# Altium integrated library Grounded clock.IntLib: 54 symbols (part 2 of 2)
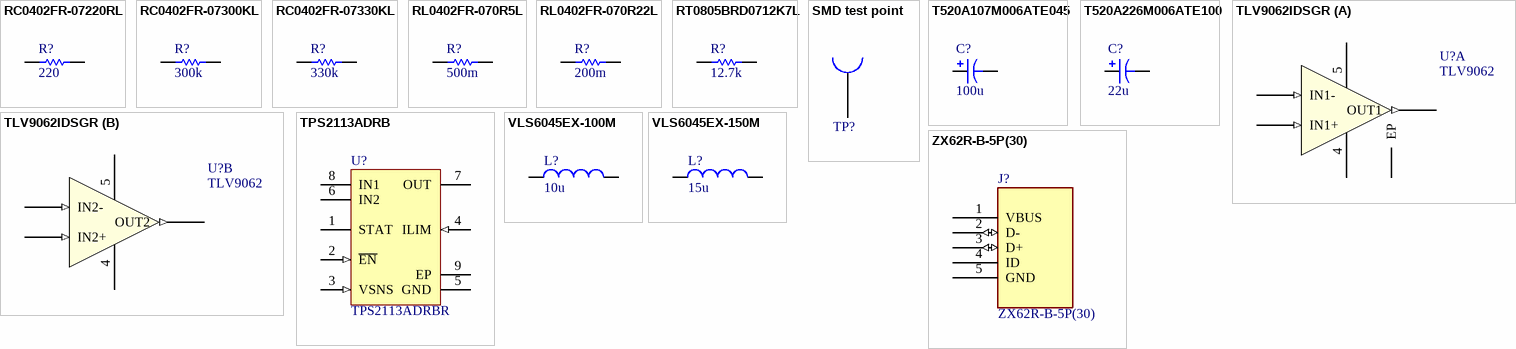
[diagram p2: symbols RC0402FR-07220RL to ZX62R-B-5P(30)]

## RC0402FR-07330KL
designator R?, comment 330k
RES SMD 330K OHM 1% 1/16W 0402; Manufacturer: Yageo; Manufacturer Part Number: RC0402FR-07330KL; Power (Watts): 0.063W, 1/16W; Temperature Coefficient: ±100ppm/°C; Supplier 1: Digi-Key; RoHS: RoHS Compliant; Category: Resistors; Stock 1: 1954423; Pricing 1: 1=0.1, 10=0.018, 100=0.0076, 1000=0.00356, 2500=0.00313, 5000=0.00263 (USD); Packaging: Cut Tape (CT); Part Status: Active; Tolerance: ±1%; Composition: Thick Film; Features: Moisture Resistant; Operating Temperature: -55°C ~ 155°C; Package / Case: 0402 (1005 Metric); Supplier Device Package: 0402; Size / Dimension: 0.039" L x 0.020" W (1.00mm x 0.50mm); Height - Seated (Max): 0.016" (0.40mm); Failure Rate: -; ComponentLink1URL: http://www.yageo.com/documents/recent/PYu-RC_Group_51_RoHS_L_9.pdf; ComponentLink1Description: http://www.yageo.com/documents/recent/PYu-RC_Group_51_RoHS_L_9.pdf; Supplier Part Number 1: 311-330KLRCT-ND
footprint RESC0402(1005)_N (Chip Resistor, Body 1.0x0.5mm, IPC Medium Density)
footprint RESC0402(1005)_M (Chip Resistor, Body 1.0x0.5mm, IPC Low Density)
footprint RESC0402(1005)_L (Chip Resistor, Body 1.0x0.5mm, IPC High Density)
pins: 1, 2

## RL0402FR-070R5L
designator R?, comment 500m
RES 0.5 OHM 1% 1/16W 0402; Manufacturer: Yageo; Manufacturer Part Number: RC0402FR-071RL; Power (Watts): 0.063W, 1/16W; Temperature Coefficient: ±200ppm/°C; RoHS: RoHS Compliant; Category: Resistors; Packaging: Cut Tape (CT); Part Status: Active; Tolerance: ±1%; Composition: Thick Film; Features: Moisture Resistant; Operating Temperature: -55°C ~ 155°C; Package / Case: 0402 (1005 Metric); Supplier Device Package: 0402; Size / Dimension: 0.039" L x 0.020" W (1.00mm x 0.50mm); Height - Seated (Max): 0.016" (0.40mm); Failure Rate: -; ComponentLink1URL: http://www.yageo.com/documents/recent/PYu-RC_Group_51_RoHS_L_9.pdf; ComponentLink1Description: http://www.yageo.com/documents/recent/PYu-RC_Group_51_RoHS_L_9.pdf; Supplier 1: Digi-Key; Supplier 2: Mouser; Supplier Part Number 1: 311-.5PCT-ND; Supplier Part Number 2: 603-RL0402FR070R5L
footprint RESC0402(1005)_L (Chip Resistor, Body 1.0x0.5mm, IPC High Density)
footprint RESC0402(1005)_M (Chip Resistor, Body 1.0x0.5mm, IPC Low Density)
footprint RESC0402(1005)_N (Chip Resistor, Body 1.0x0.5mm, IPC Medium Density)
pins: 1, 2

## RL0402FR-070R22L
designator R?, comment 200m
RES 0.22 OHM 1% 1/16W 0402; Manufacturer: Yageo; Manufacturer Part Number: RC0402FR-071RL; Power (Watts): 0.063W, 1/16W; Temperature Coefficient: ±200ppm/°C; RoHS: RoHS Compliant; Category: Resistors; Packaging: Cut Tape (CT); Part Status: Active; Tolerance: ±1%; Composition: Thick Film; Features: Moisture Resistant; Operating Temperature: -55°C ~ 155°C; Package / Case: 0402 (1005 Metric); Supplier Device Package: 0402; Size / Dimension: 0.039" L x 0.020" W (1.00mm x 0.50mm); Height - Seated (Max): 0.016" (0.40mm); Failure Rate: -; ComponentLink1URL: http://www.yageo.com/documents/recent/PYu-RC_Group_51_RoHS_L_9.pdf; ComponentLink1Description: http://www.yageo.com/documents/recent/PYu-RC_Group_51_RoHS_L_9.pdf; Supplier 1: Digi-Key; Supplier 2: Mouser; Supplier Part Number 1: 311-.22PCT-ND; Supplier Part Number 2: 603-RL0402FR-070R22L
footprint RESC0402(1005)_L (Chip Resistor, Body 1.0x0.5mm, IPC High Density)
footprint RESC0402(1005)_M (Chip Resistor, Body 1.0x0.5mm, IPC Low Density)
footprint RESC0402(1005)_N (Chip Resistor, Body 1.0x0.5mm, IPC Medium Density)
pins: 1, 2

## RT0805BRD0712K7L
designator R?, comment 12.7k
RES SMD 12.7K OHM 0.1% 1/8W 0805; Manufacturer: Yageo; Manufacturer Part Number: RT0805BRD0712K7L; Power (Watts): 0.125W, 1/8W; Temperature Coefficient: ±25ppm/°C; Supplier 1: Digi-Key; RoHS: RoHS Compliant; Category: Resistors; Stock 1: 19760; Pricing 1: 1=0.4, 10=0.285, 100=0.1139, 1000=0.05612, 2500=0.05199 (USD); Packaging: Cut Tape (CT); Part Status: Active; Tolerance: ±0.1%; Composition: Thin Film; Features: -; Operating Temperature: -55°C ~ 155°C; Package / Case: 0805 (2012 Metric); Supplier Device Package: 0805; Size / Dimension: 0.079" L x 0.049" W (2.00mm x 1.25mm); Height - Seated (Max): 0.024" (0.60mm); Failure Rate: -; ComponentLink1URL: http://www.yageo.com/documents/recent/PYu-RT_1-to-0.01_RoHS_L_9.pdf; ComponentLink1Description: http://www.yageo.com/documents/recent/PYu-RT_1-to-0.01_RoHS_L_9.pdf; Supplier Part Number 1: YAG1775CT-ND; Supplier 2: Mouser; Supplier Part Number 2: 603-RT0805BRD0712K7L
footprint RESC0805(2012)_L (Chip Resistor, Body 2.0x1.3mm, IPC High Density)
footprint RESC0805(2012)_M (Chip Resistor, Body 2.0x1.3mm, IPC Low Density)
footprint RESC0805(2012)_N (Chip Resistor, Body 2.0x1.3mm, IPC Medium Density)
pins: 1, 2

## SMD test point
designator TP?  (value not drawn)  (no BOM)
footprint 2mm SMD test point
pins: 1

## T520A107M006ATE045
designator C?, comment 100u
POLY TA SMD 3216 100UF 6.3V 20%; Supplier 1: Digi-Key; Supplier 2: Mouser; Supplier Part Number 1: 399-18160-1-ND; Supplier Part Number 2: 80-T520A107M06ATE045
footprint KEMET A
pins: 1, 2

## T520A226M006ATE100
designator C?, comment 22u
CAP TANT POLY 22UF 6.3V 1206; Supplier 1: Digi-Key; Supplier 2: Mouser; Supplier Part Number 1: 399-5271-1-ND; Supplier Part Number 2: 80-T520A226M6ATE100
footprint KEMET A
pins: 1, 2

## TLV9062IDSGR
designator U?, comment TLV9062
CMOS Amplifier 2 Circuit Rail-to-Rail 8-WSON (2x2); Manufacturer: Texas Instruments; Manufacturer Part Number: TLV9062IDSGR; Slew Rate: 6.5 V/µs; Current - Supply: 538µA; Voltage - Supply, Single/Dual (±): 1.8 V ~ 5.5 V; Supplier 1: Digi-Key; RoHS: RoHS Compliant; Category: Integrated Circuits (ICs); Stock 1: 2198; Pricing 1: 1=0.65, 10=0.556, 100=0.4153, 500=0.3263, 1000=0.25214 (USD); Packaging: Cut Tape (CT); Part Status: Active; Amplifier Type: CMOS; Output Type: Rail-to-Rail; Operating Temperature: -40°C ~ 125°C (TA); Mounting Type: Surface Mount; Package / Case: 8-WFDFN Exposed Pad; Supplier Device Package: 8-WSON (2x2); ComponentLink1URL: http://www.ti.com/lit/ds/symlink/tlv9062.pdf; ComponentLink1Description: http://www.ti.com/lit/ds/symlink/tlv9062.pdf; Supplier Part Number 1: 296-50013-1-ND
footprint WSON-8
part A pins: 1 OUT1 (out), 2 IN1- (in), 3 IN1+ (in), 4 V- (power), 5 V+ (power), 9 EP
part B pins: 4 V- (power), 5 V+ (power), 6 IN2- (in), 7 OUT2 (out), 8 IN2+ (in)

## TPS2113ADRB
designator U?, comment TPS2113ADRBR
Dual In / Single Out Autoswitching Power Mux, 2.8 to 5.5 V, -40 to 85 degC, 9-pin SON (DRB), Green (RoHS & no Sb/Br); Manufacturer: Texas Instruments; IN1, IN2 Input Voltage(Min)(V): 2.8; SubFamily: Power Multiplexer (MUX); IN1 rDS(on)(Typ)(mOhm): 84; IN2 rDS(on)(Typ)(Ohms): 0.084; Number of Inputs: 2; IN1, IN2 Input Voltage(Max)(V): 5.5; IN2 Output Current(Max)(A): 1.25; Operating Supply Voltage: 5.5V; Number of Outputs: 1; Output Current: 1.25A; Min Input Voltage: 2.8V; Turn-On Delay Time: 1ms; PackageVersion: revK, Jun-2012; PackageDescription: 8-Pin Plastic Small Outline No-Lead, 3 x 3 x 1 mm Body, 0.65 mm Pitch, Exposed Pad; ComponentLink1Description: Datasheet; ComponentLink1URL: http://www.ti.com/general/docs/lit/getliterature.tsp?genericPartNumber=TPS2113A&fileType=pdf; DatasheetVersion: SBVS045C; Eco-Plan: Green (RoHS & no Sb/Br); PartNumber: TPS2113ADRBR; Mounting Technology: Surface Mount; PackageReference: DRB0008B; IN1 Output Current(Max)(A): 1.25; Supplier 1: Digi-Key; Manufacturer Part Number: TPS2113ADRBR; Stock 1: 8863; Pricing 1: 1=2.01, 10=1.801, 100=1.448, 500=1.18966, 1000=0.98571 (USD); Case/Package: TSSOP; Number of Pins: 8; Min Operating Temperature: -40°C; Max Operating Temperature: 85°C; Package Quantity: 3000; Packaging: Tape and Reel; Max Output Current: 1.25A; Max Input Voltage: 5.5V; Current - Output 2: 1.25A; Radiation Hardening: No; Lead Free: Lead Free; ComponentLink2URL: http://www.ti.com/general/docs/lit/getliterature.tsp?genericPartNumber=TPS2113A&&fileType=pdf; ComponentLink2Description: http://www.ti.com/general/docs/lit/getliterature.tsp?genericPartNumber=TPS2113A&&fileType=pdf; ComponentLink3URL: https://www.verical.com/server-webapp/html/getDatasheet?partID=627486; ComponentLink3Description: https://www.verical.com/server-webapp/html/getDatasheet?partID=627486; ComponentLink4URL: http://www.ti.com/lit/ds/symlink/tps2113a.pdf; ComponentLink4Description: http://www.ti.com/lit/ds/symlink/tps2113a.pdf; Supplier Part Number 1: 296-46373-1-ND
footprint VSON-8 (SON, 8-Leads, Body 3x3mm, Pitch 0.65mm, Thermal Pad 2.4x1.65mm, TI Recommended)
pins: 1 STAT (hiz) "STAT is an open-drain output that is Hi-Z if the IN2 switch is ON. STAT pulls low if the IN1 switch is ON or if OUT is Hi-Z (that is, E\N\ is equal to logic '0')", 2 ~{EN} (in) "TTL- and CMOS-compatible input with a 1-uA pull-up. The Truth Table illustrates the functionality of E\N\.", 3 VSNS (in) "An internal power FET connects OUT to IN1 if the VSNS voltage is greater than 0.8 V.Otherwise, the FET connects OUT to the higher of IN1 and IN2. The Truth Table illustrates the functionality of VSNS.", 4 ILIM (in) "A resistor (RILIM) from ILIM to GND sets the current limit (IL) to 250/RILIM and 500/RILIM for the TPS2113A, respectively.", 5 GND (power) "Ground", 6 IN2 (power) "Secondary power switch input. The IN2 switch can be enabled only if the IN2 supply is above the UVLO threshold and at least one supply exceeds the internal VDD UVLO.", 7 OUT (power) "Power switch output", 8 IN1 (power) "Primary power switch input. The IN1 switch can be enabled only if the IN1 supply is above the UVLO threshold and at least one supply exceeds the internal VDD UVLO.", 9 EP (power) "Connect to GND. Must be connected to large copper area in order to meet stated package dissipation ratings."

## VLS6045EX-100M
designator L?, comment 10u
FIXED IND 10UH 3.4A 61 MOHM SMD; Supplier 1: Digi-Key; Supplier 2: Mouser; Supplier Part Number 1: 445-173039-1-ND; Supplier Part Number 2: 810-VLS6045EX-100M
footprint VLS6045EX
pins: 1, 2

## VLS6045EX-150M
designator L?, comment 15u
FIXED IND 15UH 2.5A 98 MOHM SMD; Supplier 1: Digi-Key; Supplier 2: Mouser; Supplier Part Number 1: 445-173041-1-ND; Supplier Part Number 2: 810-VLS6045EX-150M
footprint VLS6045EX
pins: 1, 2

## ZX62R-B-5P(30)
designator J?
HIROSE(HRS)         ZX62R-B-5P(30)             USB Connector, Micro USB Type B, USB 2.0, Receptacle, 5 Ways, Surface Mount, Right Angle; Number of Contacts: 5; USB Standard: USB 2.0; Supplier 1: Digi-Key; Manufacturer: Hirose; Manufacturer Part Number: ZX62R-B-5P(30); Stock 1: 50674; Pricing 1: 1=1.02, 10=0.898, 25=0.8448, 50=0.8096, 100=0.7744, 250=0.704, 500=0.6336, 1000=0.5632 (USD); Mount: Horizontal,Surface Mount; Contact Material: Copper Alloy; Contact Plating: Gold; Packaging: Tape and Reel; Connector Type: USB; Gender: Receptacle; Orientation: Right Angle; REACH SVHC: Unknown; Lead Free: Lead Free; Supplier 2: Mouser; Supplier Part Number 2: 798-ZX62R-B-5P30; Supplier Part Number 1: H125274CT-ND
footprint HRS_ZX62R-B-5P(30)_ZX62R-B-5P(30)(Primary)
pins: 1 VBUS (power), 2 D- (io), 3 D+ (io), 4 ID, 5 GND (power)